# Altium footprint library Drossel_ETD_59.PcbLib: 1 footprints
Each footprint in its own frame and in the unit in brackets; x right, y up, seen from the top. Pads: shape width x height; smd on the part's side, far side on the other; paste and mask are expansions set on the pad; w line width, h text height; cw(c..) or ccw(c..) is an arc to the next point about the centre after c.
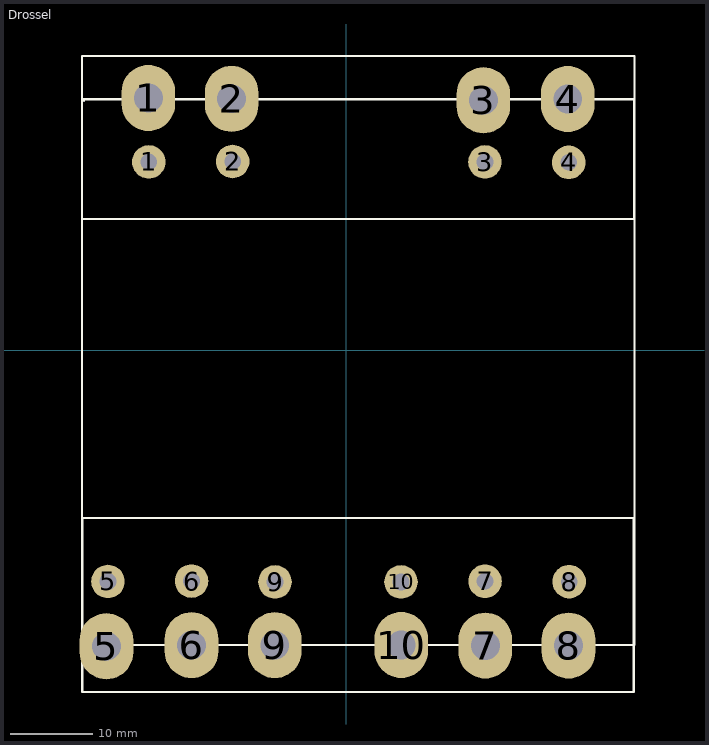
[diagram p0: the footprint, top view; thin cyan lines are the x and y axes]

## Drossel [mil]
pads (20):
  oval 255.91x314.96 hole 137.8: 1(-943,1204) 2(-546,1200) 3(655,1193) 4(1057,1199) 5(-1143,-1411) 6(-737,-1406) 7(664,-1408) 8(1061,-1408) 9(-340,-1406) 10(263,-1405)
  round 160 hole 80: 1(-941,899) 2(-541,901) 3(662,899) 4(1062,897) 5(-1136,-1102) 6(-737,-1100) 7(663,-1101) 8(1064,-1103) 9(-339,-1104) 10(262,-1104)
Top Overlay:
  lines w10: -1259,-1405 1376,-1405 1376,1405 -1259,1405 -1259,-1405 ; -1259,-1401 -1258,-1401 -1258,-1392 -1259,-1392 -1259,-1401 ; -1259,626 1374,626 1374,1198 -1259,1198 -1259,626 ; -1258.5,-1630 1372,-1630 1372,-800 -1258.5,-800 -1258.5,-1630 ; -1250,1189 -1250,1200 -1250,1189
3D body "ETD59.STEP": height 2023.61, standoff -72.71, extent -1250.86,-1399.16 1383,1203.16